# Altium footprint library PCB_main_single_side_STACK.PcbLib: 36 footprints (part 2 of 3)
Each footprint in its own frame and in the unit in brackets; x right, y up, seen from the top. Pads: shape width x height; smd on the part's side, far side on the other; paste and mask are expansions set on the pad; w line width, h text height; cw(c..) or ccw(c..) is an arc to the next point about the centre after c.
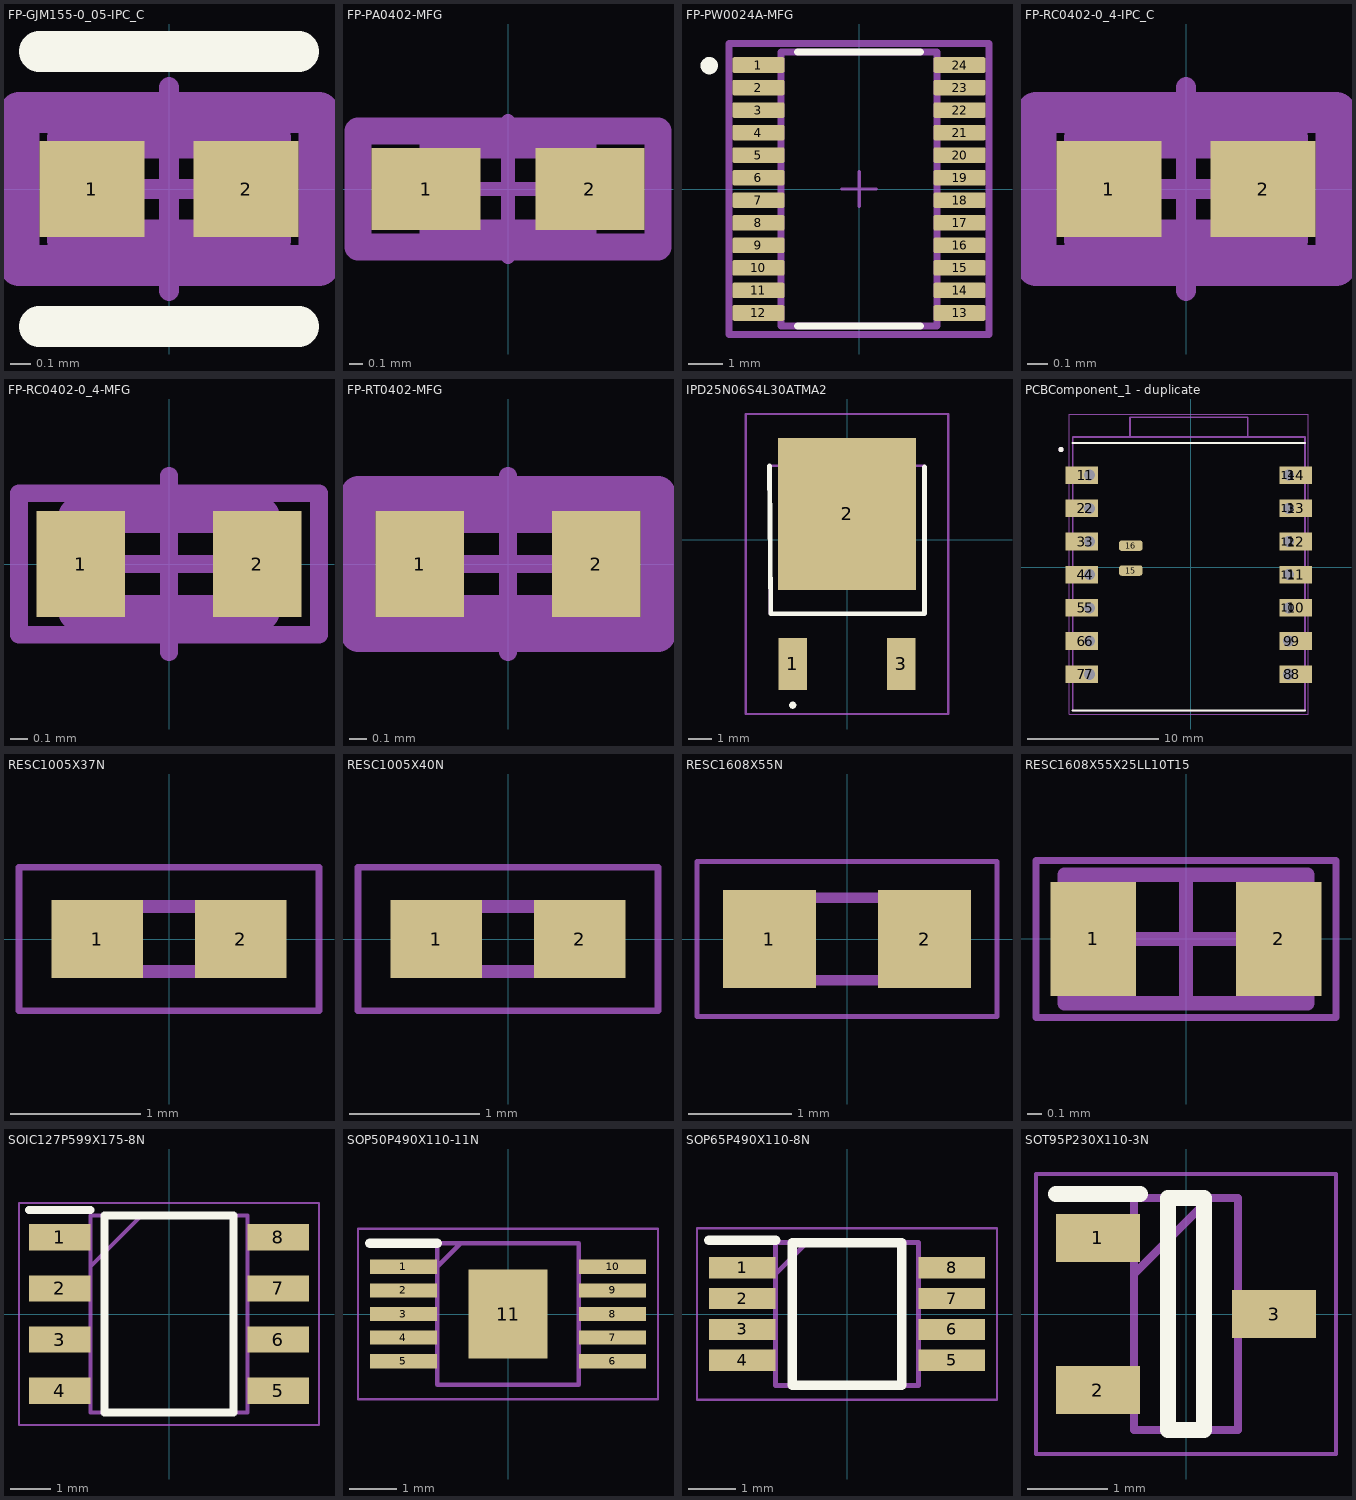
[diagram p1: the footprints below, top view; thin cyan lines are the x and y axes]

## FP-GJM155-0_05-IPC_C [mm]
pads (2):
  rect 0.515x0.472 smd paste+0 mask+0: 1(-0.379,0) 2(0.379,0)
Top Overlay:
  lines w0.2: -0.636,-0.675 0.636,-0.675 ; -0.636,0.675 0.636,0.675
Top Assembly:
  lines w0.2: -0.736,-0.375 0.736,-0.375 0.736,0.375 -0.736,0.375 -0.736,-0.375
  text ".Designator" at 0.153,0.386 h0.7
Top 3D Body:
  lines w0.2: -0.5,-0.25 0.5,-0.25 0.5,0.25 -0.5,0.25 -0.5,-0.25
Top Courtyard:
  lines w0.2: -0.736,-0.375 0.736,-0.375 0.736,0.375 -0.736,0.375 -0.736,-0.375
Top Component Center:
  lines w0.1: -0.5,0 0.5,0 ; 0,-0.5 0,0.5
3D body "Cap_Murata_GJM1551C1H7R0DB01D_eec.STEP": height 0.25, standoff 0, extent -0.736,-0.375 0.736,0.375

## FP-PA0402-MFG [mm]
pads (2):
  rect 0.8x0.6 smd paste+0 mask+0: 1(-0.6,0) 2(0.6,0)
Top Assembly:
  lines w0.2: -1.1,-0.425 1.1,-0.425 1.1,0.425 -1.1,0.425 -1.1,-0.425
  text ".Designator" at 0.153,0.386 h0.7
Top 3D Body:
  lines w0.2: -0.55,-0.325 0.55,-0.325 0.55,0.325 -0.55,0.325 -0.55,-0.325
Top Courtyard:
  lines w0.2: -1.1,-0.425 1.1,-0.425 1.1,0.425 -1.1,0.425 -1.1,-0.425
Top Component Center:
  lines w0.1: -0.5,0 0.5,0 ; 0,-0.5 0,0.5
3D body "Res_Yageo_PA0402FRL7T0R02L_eec.STEP": height 0.4, standoff 0, extent -0.5,-0.275 0.5,0.275

## FP-PW0024A-MFG [mm]
pads (24):
  rrect22% 1.5x0.45 smd paste+0 mask+0: 1(-2.9,3.575) 2(-2.9,2.925) 3(-2.9,2.275) 4(-2.9,1.625) 5(-2.9,0.975) 6(-2.9,0.325) 7(-2.9,-0.325) 8(-2.9,-0.975) 9(-2.9,-1.625) 10(-2.9,-2.275) 11(-2.9,-2.925) 12(-2.9,-3.575) 13(2.9,-3.575) 14(2.9,-2.925) 15(2.9,-2.275) 16(2.9,-1.625) 17(2.9,-0.975) 18(2.9,-0.325) 19(2.9,0.325) 20(2.9,0.975) 21(2.9,1.625) 22(2.9,2.275) 23(2.9,2.925) 24(2.9,3.575)
Top Overlay:
  circle w0.25: c-4.318,3.556 r0.125
  lines w0.2: -1.775,-3.95 1.775,-3.95 ; -1.775,3.95 1.775,3.95
Top Assembly:
  lines w0.2: -3.75,-4.2 3.75,-4.2 3.75,4.2 -3.75,4.2 -3.75,-4.2
  text ".Designator" at 0.153,0.386 h0.7
Top 3D Body:
  lines w0.2: -2.25,-3.95 2.25,-3.95 2.25,3.95 -2.25,3.95 -2.25,-3.95
Top Courtyard:
  lines w0.2: -3.75,-4.2 3.75,-4.2 3.75,4.2 -3.75,4.2 -3.75,-4.2
Top Component Center:
  lines w0.1: -0.5,0 0.5,0 ; 0,-0.5 0,0.5
3D body "IC_Texas_Instruments_SN74LVC8T245PWR_eec.STEP": height 1.2, standoff 0, extent -3.2,-3.9 3.2,3.9

## FP-RC0402-0_4-IPC_C [mm]
pads (2):
  rect 0.515x0.472 smd paste+0 mask+0: 1(-0.379,0) 2(0.379,0)
Top Assembly:
  lines w0.2: -0.736,-0.375 -0.736,0.375 0.736,0.375 0.736,-0.375 -0.736,-0.375
  text ".Designator" at 0.153,0.386 h0.7
Top 3D Body:
  lines w0.2: -0.5,-0.25 -0.5,0.25 0.5,0.25 0.5,-0.25 -0.5,-0.25
Top Courtyard:
  lines w0.2: -0.736,-0.375 -0.736,0.375 0.736,0.375 0.736,-0.375 -0.736,-0.375
Top Component Center:
  lines w0.1: -0.5,0 0.5,0 ; 0,-0.5 0,0.5
3D body "Res_YAGEO_RC0402JR-071ML_eec.STEP": height 0.25, standoff 0, extent -0.736,-0.375 0.736,0.375

## FP-RC0402-0_4-MFG [mm]
pads (2):
  rect 0.5x0.6 smd: 1(-0.5,0) 2(0.5,0)
Top Assembly:
  text ".Designator" at 0.153,0.386 h0.7
Top 3D Body:
  lines w0.2: -0.525,-0.275 -0.525,0.275 0.525,0.275 0.525,-0.275 -0.525,-0.275
Top Courtyard:
  lines w0.1: -0.85,-0.4 -0.85,0.4 0.85,0.4 0.85,-0.4 -0.85,-0.4
Top Component Center:
  lines w0.1: -0.5,0 0.5,0 ; 0,-0.5 0,0.5
3D body "Res_Yageo_RC0402FR-072R2L_eec.STEP": height 0.4, standoff 0, extent -0.5,-0.25 0.5,0.25

## FP-RT0402-MFG [mm]
pads (2):
  rect 0.5x0.6 smd paste+0 mask+0: 1(-0.5,0) 2(0.5,0)
Top Assembly:
  lines w0.2: -0.85,-0.4 0.85,-0.4 0.85,0.4 -0.85,0.4 -0.85,-0.4
  text ".Designator" at 0.153,0.513 h0.7
Top 3D Body:
  lines w0.2: -0.55,-0.275 0.55,-0.275 0.55,0.275 -0.55,0.275 -0.55,-0.275
Top Courtyard:
  lines w0.2: -0.85,-0.4 0.85,-0.4 0.85,0.4 -0.85,0.4 -0.85,-0.4
Top Component Center:
  lines w0.1: -0.5,0 0.5,0 ; 0,-0.5 0,0.5
3D body "Res_Yageo_RT0402BRE07118KL_eec.STEP": height 0.25, standoff 0, extent -0.85,-0.4 0.85,0.4

## IPD25N06S4L30ATMA2 [mm]
pads (3):
  rect 1.2x2.2 smd: 1(-2.28,-5.22) 3(2.28,-5.22)
  rect 5.8x6.4 smd: 2(0,1.08)
Top Overlay:
  lines w0.2: -3.25,3.11 -3.2,-3.11 3.2,-3.11 3.25,-3.11 3.25,3.06 ; -2.28,-7 ccw(c-2.28,-6.95) -2.28,-6.9 ; -2.28,-7 cw(c-2.28,-6.95) -2.28,-6.9 ; -2.28,-7 ccw(c-2.28,-6.95) -2.28,-6.9
Top 3D Body:
  lines w0.1: -3.25,-3.11 -3.25,3.11 3.25,3.11 3.25,-3.11 -3.25,-3.11
Top Courtyard:
  lines w0.1: -4.25,-7.32 -4.25,5.28 4.25,5.28 4.25,-7.32 -4.25,-7.32
3D body "IPD25N06S4L30ATMA2.stp": height 2.4, standoff 0, extent -3.3,-5.87 3.3,3.83

## PCBComponent_1 - duplicate [mil]
pads (30):
  rect 98.43x53.46 smd: 1(-327.48,277.5) 2(-327.48,177.5) 3(-327.48,77.5) 4(-327.48,-22.5) 5(-327.48,-122.5) 6(-327.48,-222.5) 7(-327.48,-322.5) 8(317.48,-322.5) 9(317.48,-222.5) 10(317.48,-122.5) 11(317.48,-22.5) 12(317.48,77.5) 13(317.48,177.5) 14(317.48,277.5)
  rect 53.46x53.46 hole 33.46: 1(-305,277.5)
  round 53.46 hole 33.46: 2(-305,177.5) 3(-305,77.5) 4(-305,-22.5) 5(-305,-122.5) 6(-305,-222.5) 7(-305,-322.5) 8(295,-322.5) 9(295,-222.5) 10(295,-122.5) 11(295,-22.5) 12(295,77.5) 13(295,177.5) 14(295,277.5)
  rrect50% 70.87x31.5 smd: 15(-180,-10) 16(-180,65)
Top Overlay:
  circle w7.87: c-390,355 r3.94
  lines w6.02: -355,-432.5 345,-432.5 ; -355,375 345,375
Top 3D Body:
  lines w5: -182.17,392.5 -355,392.5 -355,-432.5 345,-432.5 345,392.5 172.17,392.5 ; -182.17,392.5 172.17,392.5 ; -182.17,392.5 -182.17,451.95 172.17,451.95 172.17,392.5
  lines w7.87: -388.76,358.73 ccw(c-390,355) -386.06,355
Top Courtyard:
  lines w1.97: -364.84,-442.34 -364.84,461.79 354.84,461.79 354.84,-442.34 -364.84,-442.34
3D body "step_temp.STEP": height 165.75, standoff 0, extent -355,-434.37 345,450

## RESC1005X37N [mm]
pads (2):
  rect 0.7x0.6 smd: 1(-0.55,0) 2(0.55,0)
Top 3D Body:
  lines w0.1: -0.5,-0.25 0.5,-0.25 0.5,0.25 -0.5,0.25 -0.5,-0.25
Top Courtyard:
  lines w0.05: -1.15,-0.55 1.15,-0.55 1.15,0.55 -1.15,0.55 -1.15,-0.55
3D body "MCS04020C1002FE000.stp": height 0.32, standoff 0, extent -0.5,-0.25 0.5,0.25

## RESC1005X40N [mm]
pads (2):
  rect 0.7x0.6 smd: 1(-0.55,0) 2(0.55,0)
Top 3D Body:
  lines w0.1: -0.512,-0.25 -0.512,0.25 0.512,0.25 0.512,-0.25 -0.512,-0.25
Top Courtyard:
  lines w0.05: -1.15,-0.55 -1.15,0.55 1.15,0.55 1.15,-0.55 -1.15,-0.55
3D body "RK73H1ETTP6801F.stp": height 0.4, standoff 0, extent -0.513,-0.25 0.513,0.25

## RESC1608X55N [mm]
pads (2):
  rect 0.9x0.95 smd: 1(-0.75,0) 2(0.75,0)
Top 3D Body:
  lines w0.1: -0.8,-0.4 0.8,-0.4 0.8,0.4 -0.8,0.4 -0.8,-0.4
Top Courtyard:
  lines w0.05: -1.45,-0.75 1.45,-0.75 1.45,0.75 -1.45,0.75 -1.45,-0.75
3D body "CRT0603ABY-1000ELF.stp": height 0.55, standoff 0, extent -0.8,-0.4 0.8,0.4

## RESC1608X55X25LL10T15 [mm] "Chip Resistor, 2-Leads, Body 1.70x0.90mm, IPC High Density"
height 0.55
pads (2):
  rect 0.6x0.8 smd: 1(-0.65,0) 2(0.65,0)
Top 3D Body:
  lines w0.1: -0.85,-0.45 -0.85,0.45 0.85,0.45 0.85,-0.45 -0.85,-0.45
Top Courtyard:
  lines w0.05: -1.05,-0.55 -1.05,0.55 1.05,0.55 1.05,-0.55 -1.05,-0.55
  lines w0.1: -0.45,0 0.45,0 ; 0,-0.45 0,0.45
3D body: height 0.55, standoff 0, extent -0.6,-0.45 0.6,0.45
3D body: height 0.55, standoff 0, extent -0.85,-0.45 -0.6,0.45
3D body: height 0.55, standoff 0, extent 0.6,-0.45 0.85,0.45

## SOIC127P599X175-8N [mm]
pads (8):
  rect 1.526x0.65 smd: 1(-2.712,1.905) 2(-2.712,0.635) 3(-2.712,-0.635) 4(-2.712,-1.905) 5(2.712,-1.905) 6(2.712,-0.635) 7(2.712,0.635) 8(2.712,1.905)
Top Overlay:
  lines w0.2: -3.475,2.58 -1.95,2.58 ; -1.6,-2.451 1.6,-2.451 1.6,2.451 -1.6,2.451 -1.6,-2.451
Top 3D Body:
  lines w0.1: -1.95,1.181 -0.68,2.451 ; -1.95,-2.451 1.95,-2.451 1.95,2.451 -1.95,2.451 -1.95,-2.451
Top Courtyard:
  lines w0.05: -3.725,-2.752 3.725,-2.752 3.725,2.752 -3.725,2.752 -3.725,-2.752
3D body "LTC1144IS8#PBF.stp": height 1.75, standoff 0, extent -2.997,-2.451 2.997,2.451

## SOP50P490X110-11N [mm]
pads (11):
  rect 1.425x0.3 smd: 1(-2.212,1) 2(-2.212,0.5) 3(-2.212,0) 4(-2.212,-0.5) 5(-2.212,-1) 6(2.212,-1) 7(2.212,-0.5) 8(2.212,0) 9(2.212,0.5) 10(2.212,1)
  rect 1.68x1.88 smd: 11(0,0)
Top Overlay:
  lines w0.2: -2.925,1.5 -1.5,1.5
Top 3D Body:
  lines w0.1: -1.5,1 -1,1.5 ; -1.5,-1.5 -1.5,1.5 1.5,1.5 1.5,-1.5 -1.5,-1.5
Top Courtyard:
  lines w0.05: -3.175,-1.801 -3.175,1.801 3.175,1.801 3.175,-1.801 -3.175,-1.801
3D body "LT3757EMSE#PBF.stp": height 1.1, standoff 0, extent -2.45,-1.5 2.45,1.5

## SOP65P490X110-8N [mm]
pads (8):
  rect 1.4x0.45 smd: 1(-2.2,0.975) 2(-2.2,0.325) 3(-2.2,-0.325) 4(-2.2,-0.975) 5(2.2,-0.975) 6(2.2,-0.325) 7(2.2,0.325) 8(2.2,0.975)
Top Overlay:
  lines w0.2: -2.9,1.55 -1.5,1.55 ; -1.15,-1.5 1.15,-1.5 1.15,1.5 -1.15,1.5 -1.15,-1.5
Top 3D Body:
  lines w0.1: -1.5,0.85 -0.85,1.5 ; -1.5,-1.5 1.5,-1.5 1.5,1.5 -1.5,1.5 -1.5,-1.5
Top Courtyard:
  lines w0.05: -3.15,-1.8 3.15,-1.8 3.15,1.8 -3.15,1.8 -3.15,-1.8
3D body "INA823DGKR.stp": height 1.1, standoff 0, extent -2.451,-1.499 2.451,1.499

## SOT95P230X110-3N [mm]
pads (3):
  rect 1.05x0.6 smd: 1(-1.1,0.95) 2(-1.1,-0.95) 3(1.1,0)
Top Overlay:
  lines w0.2: -1.625,1.5 -0.575,1.5 ; -0.225,-1.45 0.225,-1.45 0.225,1.45 -0.225,1.45 -0.225,-1.45
Top 3D Body:
  lines w0.1: -0.65,0.5 0.3,1.45 ; -0.65,-1.45 0.65,-1.45 0.65,1.45 -0.65,1.45 -0.65,-1.45
Top Courtyard:
  lines w0.05: -1.875,-1.75 1.875,-1.75 1.875,1.75 -1.875,1.75 -1.875,-1.75
3D body "BCX17,215.stp": height 0.95, standoff 0, extent -1.201,-1.448 1.199,1.452